# Altium footprint library pcblib_truman.PcbLib: 31 footprints (part 2 of 2)
Each footprint in its own frame and in the unit in brackets; x right, y up, seen from the top. Pads: shape width x height; smd on the part's side, far side on the other; paste and mask are expansions set on the pad; w line width, h text height; cw(c..) or ccw(c..) is an arc to the next point about the centre after c.
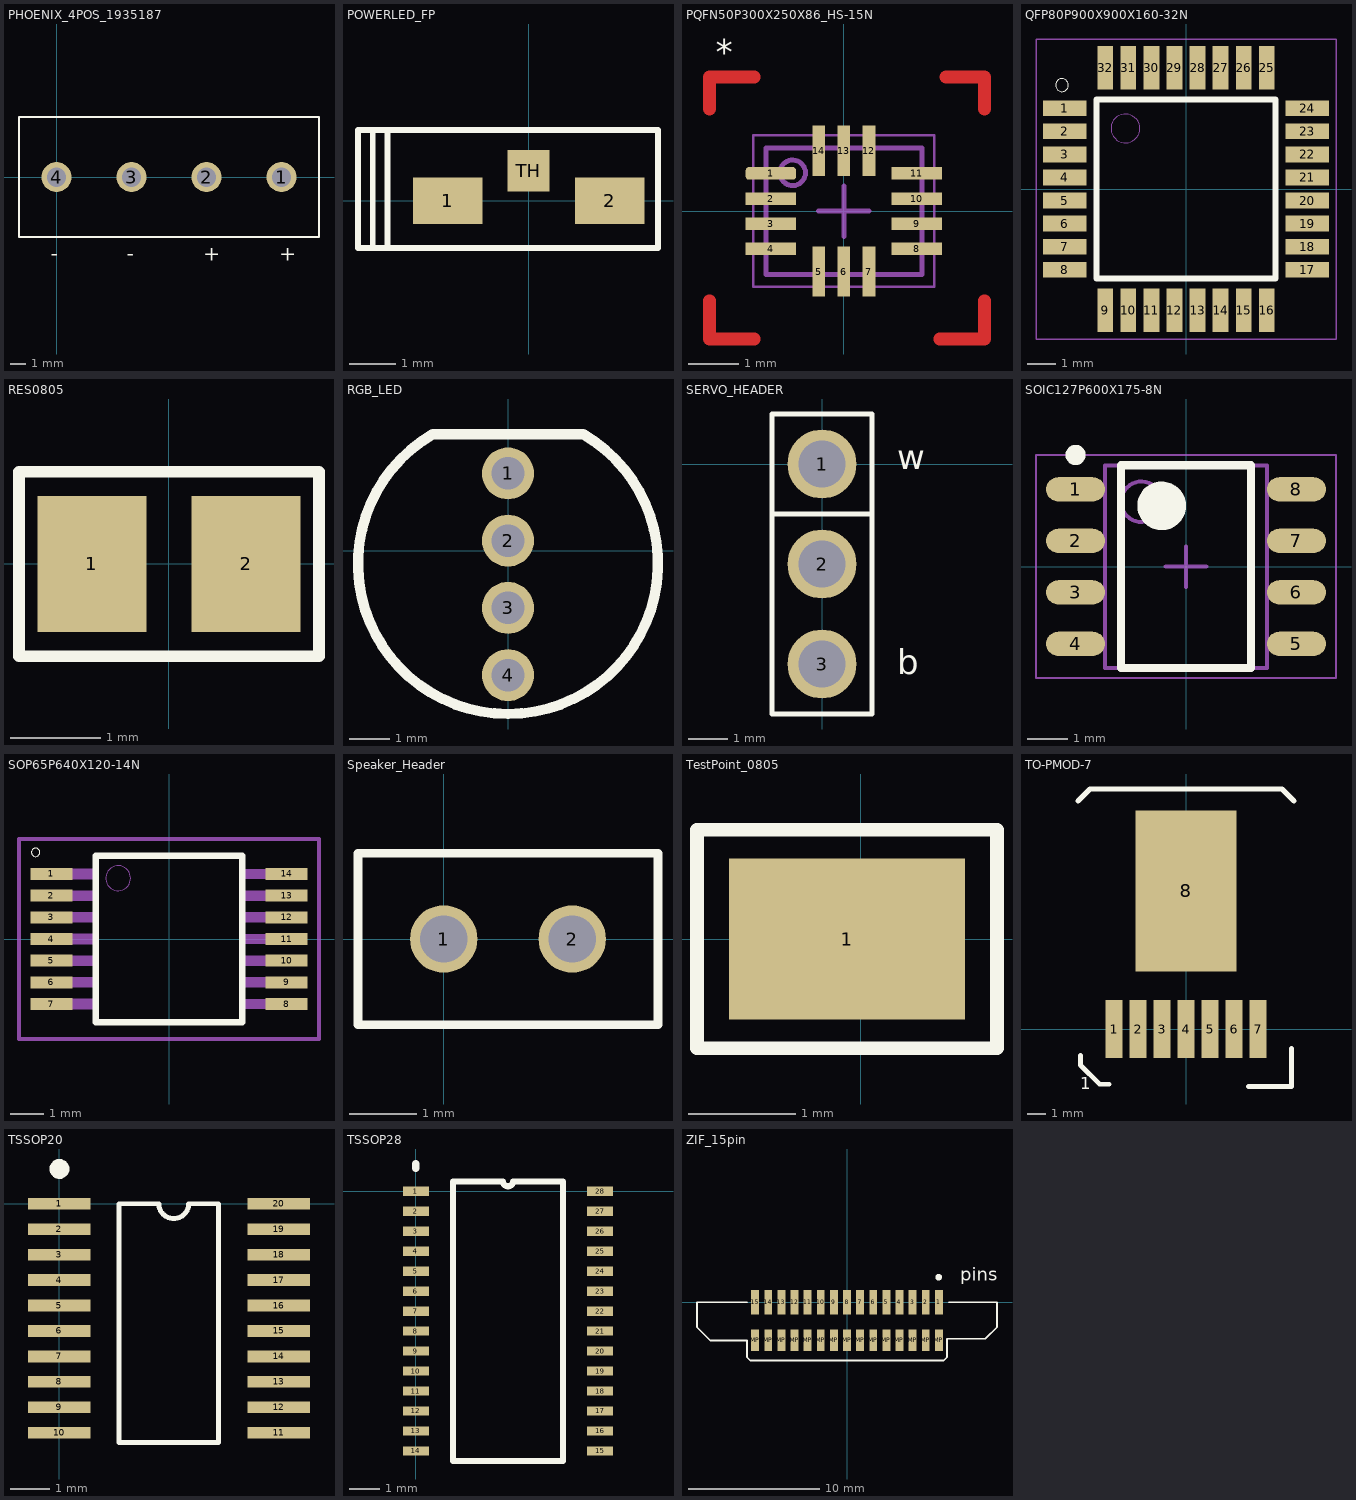
[diagram p1: the footprints below, top view; thin cyan lines are the x and y axes]

## PHOENIX_4POS_1935187 [mm]
pads (4):
  round 2 hole 1.3: 1(15,0) 2(10,0) 3(5,0) 4(0,0)
Top Overlay:
  lines w0.127: -2.5,-4 -2.5,4 17.5,4 17.5,-4 -2.5,-4
  text "+" at 9.779,-5.588 h1
  text "+" at 14.859,-5.588 h1
  text "-" at -0.381,-5.588 h1
  text "-" at 4.699,-5.588 h1

## POWERLED_FP [mm]
pads (3):
  rect 1.5x1 smd: 1(-1.75,0) 2(1.75,0)
  rect 0.9x0.9 smd: TH(0,0.65)
Top Overlay:
  lines w0.127: -3.365,-1.016 -3.365,1.524 ; -3.048,-1.016 -3.048,1.524 ; -3.048,1.524 2.794,1.524 2.794,1.016 2.794,-1.016 -2.794,-1.016 -3.683,-1.016 -3.683,1.524 -3.048,1.524

## PQFN50P300X250X86_HS-15N [mm] "PQFN, 14-Leads, Body 3.00x2.50mm, Pitch 0.50mm, Thermal Pad 1.45x1.95mm, IPC Medium Density"
height 0.86
pads (14):
  rrect50% 1x0.25 smd mask+0.08: 1(-1.45,0.75)
  rect 1x0.25 smd mask+0.08: 2(-1.45,0.25) 3(-1.45,-0.25) 4(-1.45,-0.75) 8(1.45,-0.75) 9(1.45,-0.25) 10(1.45,0.25) 11(1.45,0.75)
  rect 0.25x1 smd mask+0.08: 5(-0.5,-1.2) 6(0,-1.2) 7(0.5,-1.2) 12(0.5,1.2) 13(0,1.2) 14(-0.5,1.2)
Top Layer:
  lines w0.254: -2.667,-1.778 -2.667,-2.54 -1.778,-2.54 ; -2.667,2.032 -2.667,2.667 -1.778,2.667 ; 1.905,-2.54 2.794,-2.54 2.794,-1.778 ; 2.032,2.667 2.794,2.667 2.794,2.032
Top Overlay:
  text "*" at -2.54,2.921 h0.5
Mechanical 13:
  circle w0.1: c-1.016,0.762 r0.254
  lines w0.1: -1.55,-1.255 -1.55,1.255 1.55,1.255 1.55,-1.255 -1.55,-1.255
Mechanical 15:
  lines w0.05: -1.8,-1.505 -1.8,1.505 1.8,1.505 1.8,-1.505 -1.8,-1.505
  lines w0.1: -0.5,0 0.5,0 ; 0,-0.5 0,0.5
3D body: height 0.86, standoff 0, extent -1.55,-1.255 1.55,1.255

## QFP80P900X900X160-32N [mm]
pads (32):
  rect 1.5x0.55 smd: 1(-4.2,2.8) 2(-4.2,2) 3(-4.2,1.2) 4(-4.2,0.4) 5(-4.2,-0.4) 6(-4.2,-1.2) 7(-4.2,-2) 8(-4.2,-2.8) 17(4.2,-2.8) 18(4.2,-2) 19(4.2,-1.2) 20(4.2,-0.4) 21(4.2,0.4) 22(4.2,1.2) 23(4.2,2) 24(4.2,2.8)
  rect 0.55x1.5 smd: 9(-2.8,-4.2) 10(-2,-4.2) 11(-1.2,-4.2) 12(-0.4,-4.2) 13(0.4,-4.2) 14(1.2,-4.2) 15(2,-4.2) 16(2.8,-4.2) 25(2.8,4.2) 26(2,4.2) 27(1.2,4.2) 28(0.4,4.2) 29(-0.4,4.2) 30(-1.2,4.2) 31(-2,4.2) 32(-2.8,4.2)
Top Overlay:
  circle w0: c-4.3,3.6 r0.224
  lines w0.2: -3.1,-3.1 -3.1,3.1 3.1,3.1 3.1,-3.1 -3.1,-3.1
Mechanical 1:
  circle w0: c-2.1,2.1 r0.5
  lines w0.05: -5.2,-5.2 -5.2,5.2 5.2,5.2 5.2,-5.2 -5.2,-5.2

## RES0805 [mm]
pads (2):
  rect 1.2x1.5 smd: 1(-0.85,0) 2(0.85,0)
Top Overlay:
  lines w0.127: -1.651,-1.016 1.651,-1.016 1.651,1.016 -1.651,1.016 -1.651,-1.016

## RGB_LED [mm]
pads (4):
  round 1.278 hole 0.8: 1(0,1.905) 2(0,0.254) 3(0,-1.397) 4(0,-3.048)
Top Overlay:
  lines w0.254: -1.841,2.87 ccw(c0,-0.32) 1.842,2.87 ; -1.803,2.87 1.803,2.87

## SERVO_HEADER [mm]
pads (3):
  round 1.75 hole 1.2: 1(0,0) 2(0,-2.54) 3(0,-5.08)
Top Overlay:
  lines w0.127: 1.27,-1.27 -1.27,-1.27 -1.27,1.27 ; -1.27,1.27 -1.27,-6.35 1.27,-6.35 1.27,1.27 -1.27,1.27
  text "b" at 1.905,-5.334 h0.64
  text "w" at 1.905,-0.127 h0.64

## SOIC127P600X175-8N [mm] "SOIC, 8-Leads, Body 4.90x3.90mm, Pitch 1.27mm, IPC Medium Density"
height 1.75
pads (8):
  oval 1.45x0.6 smd: 1(-2.725,1.905) 2(-2.725,0.635) 3(-2.725,-0.635) 4(-2.725,-1.905) 5(2.725,-1.905) 6(2.725,-0.635) 7(2.725,0.635) 8(2.725,1.905)
Top Overlay:
  circle w0.6: c-0.6,1.5 r0.3
  circle w0.25: c-2.725,2.755 r0.125
  lines w0.2: -1.6,-2.5 1.6,-2.5 1.6,2.5 -1.6,2.5 -1.6,-2.5
Mechanical 13:
  circle w0.1: c-1.1,1.6 r0.5
  lines w0.1: -2,-2.5 2,-2.5 2,2.5 -2,2.5 -2,-2.5
Mechanical 15:
  lines w0.05: -3.7,-2.75 3.7,-2.75 3.7,2.75 -3.7,2.75 -3.7,-2.75
  lines w0.1: -0.5,0 0.5,0 ; 0,-0.5 0,0.5
3D body: height 1.75, standoff 0.1, extent -2,-2.5 2,2.5

## SOP65P640X120-14N [mm]
pads (14):
  rect 1.26x0.36 smd: 1(-3.53,1.95) 2(-3.53,1.3) 3(-3.53,0.65) 4(-3.53,0) 5(-3.53,-0.65) 6(-3.53,-1.3) 7(-3.53,-1.95) 8(3.53,-1.95) 9(3.53,-1.3) 10(3.53,-0.65) 11(3.53,0) 12(3.53,0.65) 13(3.53,1.3) 14(3.53,1.95)
Top Overlay:
  circle w0: c-4,2.6 r0.127
  lines w0.203: -2.2,-2.5 -2.2,2.5 2.2,2.5 2.2,-2.5 -2.2,-2.5
Mechanical 1:
  circle w0: c-1.525,1.825 r0.375
  region: -2.227,2.102 -2.227,1.799 -3.201,1.799 -3.201,2.102
  region: -2.225,1.45 -2.225,1.15 -3.2,1.15 -3.2,1.45
  region: -2.228,0.803 -2.228,0.498 -3.202,0.498 -3.202,0.803
  region: -2.226,0.151 -2.226,-0.151 -3.201,-0.151 -3.201,0.151
  region: -2.226,-0.499 -2.226,-0.802 -3.202,-0.802 -3.202,-0.499
  region: -2.225,-1.15 -2.225,-1.452 -3.202,-1.452 -3.202,-1.15
  region: -2.225,-1.8 -2.225,-2.104 -3.204,-2.104 -3.204,-1.8
  region: 2.225,-2.1 2.225,-1.8 3.2,-1.8 3.2,-2.1
  region: 2.225,-1.45 2.225,-1.151 3.201,-1.151 3.201,-1.45
  region: 2.226,-0.799 2.226,-0.503 3.203,-0.503 3.203,-0.799
  region: 2.226,-0.149 2.226,0.148 3.202,0.148 3.202,-0.149
  region: 2.227,0.502 2.227,0.798 3.202,0.798 3.202,0.502
  region: 2.228,1.153 2.228,1.449 3.201,1.449 3.201,1.153
  region: 2.226,1.801 2.226,2.1 3.2,2.1 3.2,1.801
  lines w0.127: -4.5,-3 4.5,-3 4.5,3 -4.5,3 -4.5,-3

## Speaker_Header [mm]
pads (2):
  round 1 hole 0.7: 1(0,0) 2(1.905,0)
Top Overlay:
  lines w0.127: -1.27,-1.27 -1.27,1.27 1.016,1.27 3.175,1.27 3.175,-1.27 -1.27,-1.27

## TestPoint_0805 [mm]
pads (1):
  rect 2.2x1.5 smd: 1(-0.127,0)
Top Overlay:
  lines w0.127: -1.524,-1.016 1.27,-1.016 1.27,1.016 0.508,1.016 -1.524,1.016 -1.524,-1.016

## TO-PMOD-7 [mm]
pads (8):
  rect 0.89x3.06 smd: 1(-3.81,0) 2(-2.54,0) 3(-1.27,0) 4(0,0) 5(1.27,0) 6(2.54,0) 7(3.81,0)
  rect 5.35x8.54 smd: 8(0,7.305)
Top Overlay:
  lines w0.254: -5.715,12.065 -5.08,12.7 0,12.7 5.08,12.7 5.715,12.065 ; -5.588,-1.397 -5.588,-1.905 -4.572,-2.921 -4.064,-2.921 ; 3.302,-3.048 5.588,-3.048 5.588,-1.016
  text "1" at -5.588,-3.175 h0.64

## TSSOP20 [mm]
pads (20):
  rect 1.6x0.3 smd: 1(0,0) 2(0,-0.65) 3(0,-1.3) 4(0,-1.95) 5(0,-2.6) 6(0,-3.25) 7(0,-3.9) 8(0,-4.55) 9(0,-5.2) 10(0,-5.85) 11(5.6,-5.85) 12(5.6,-5.2) 13(5.6,-4.55) 14(5.6,-3.9) 15(5.6,-3.25) 16(5.6,-2.6) 17(5.6,-1.95) 18(5.6,-1.3) 19(5.6,-0.65) 20(5.6,0)
Top Overlay:
  circle w0.254: c0,0.889 r0.127
  lines w0.127: 1.524,-6.096 4.064,-6.096 4.064,0 3.302,0 cw(c2.921,0) 2.54,0 1.524,0 1.524,-6.096

## TSSOP28 [mm]
pads (28):
  rect 0.85x0.3 smd: 1(0,0) 2(0,-0.65) 3(0,-1.3) 4(0,-1.95) 5(0,-2.6) 6(0,-3.25) 7(0,-3.9) 8(0,-4.55) 9(0,-5.2) 10(0,-5.85) 11(0,-6.5) 12(0,-7.15) 13(0,-7.8) 14(0,-8.45) 15(6,-8.45) 16(6,-7.8) 17(6,-7.15) 18(6,-6.5) 19(6,-5.85) 20(6,-5.2) 21(6,-4.55) 22(6,-3.9) 23(6,-3.25) 24(6,-2.6) 25(6,-1.95) 26(6,-1.3) 27(6,-0.65) 28(6,0)
Top Overlay:
  lines w0.2: 1.21,-8.775 1.21,0.325 2.838,0.325 ccw(c3,0.325) 3.162,0.325 4.79,0.325 4.79,-8.775 1.21,-8.775
  lines w0.254: 0,0.762 0,0.889

## ZIF_15pin [mm]
pads (30):
  rect 0.6x1.85 smd: 1(7,0) 2(6,0) 3(5,0) 4(4,0) 5(3,0) 6(2,0) 7(1,0) 8(0,0) 9(-1,0) 10(-2,0) 11(-3,0) 12(-4,0) 13(-5,0) 14(-6,0) 15(-7,0)
  rect 0.6x1.65 smd: MP(-7,-2.9) MP(-6,-2.9) MP(-5,-2.9) MP(-4,-2.9) MP(-3,-2.9) MP(-2,-2.9) MP(-1,-2.9) MP(0,-2.9) MP(1,-2.9) MP(2,-2.9) MP(3,-2.9) MP(4,-2.9) MP(5,-2.9) MP(6,-2.9) MP(7,-2.9)
Top Overlay:
  circle w0.254: c6.985,1.905 r0.127
  lines w0.127: -7.62,0 -11.43,0 -11.43,-1.905 -10.414,-2.921 -7.62,-2.921 -7.62,-4.191 -7.366,-4.445 7.366,-4.445 7.62,-4.191 7.62,-3.048 7.62,-2.794 10.287,-2.794 10.541,-2.794 11.43,-1.905 11.43,0 7.747,0
  text "pins" at 8.636,1.651 h1